# Altium footprint library DAC.PcbLib: 1 footprints
Each footprint in its own frame and in the unit in brackets; x right, y up, seen from the top. Pads: shape width x height; smd on the part's side, far side on the other; paste and mask are expansions set on the pad; w line width, h text height; cw(c..) or ccw(c..) is an arc to the next point about the centre after c.
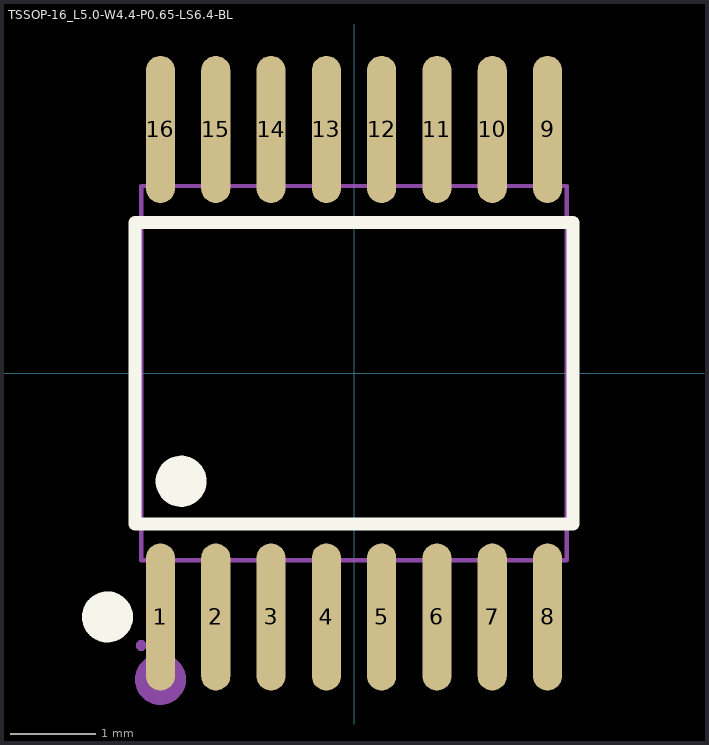
[diagram p0: the footprint, top view; thin cyan lines are the x and y axes]

## TSSOP-16_L5.0-W4.4-P0.65-LS6.4-BL [mm]
pads (16):
  oval 0.343x1.731 smd: 1(-2.275,-2.866) 2(-1.625,-2.866) 3(-0.975,-2.866) 4(-0.325,-2.866) 5(0.325,-2.866) 6(0.975,-2.866) 7(1.625,-2.866) 8(2.275,-2.866) 9(2.275,2.866) 10(1.625,2.866) 11(0.975,2.866) 12(0.325,2.866) 13(-0.325,2.866) 14(-0.975,2.866) 15(-1.625,2.866) 16(-2.275,2.866)
Top Overlay:
  circle w0.3: c-2.032,-1.27 r0.15
  circle w0.3: c-2.899,-2.866 r0.15
  lines w0.152: -2.576,-1.771 -2.576,1.772 2.576,1.772 2.576,-1.771 -2.576,-1.771
Mechanical 6:
  circle w0.3: c-2.275,-3.6 r0.15
Mechanical 15:
  drawing of 37 lines, arcs and shapes, not listed
3D body "U2.step": height 1.05, standoff 0, extent -2.5,-3.203 2.5,3.203